# Altium footprint library TE_5-534998-5.PcbLib: 1 footprints
Each footprint in its own frame and in the unit in brackets; x right, y up, seen from the top. Pads: shape width x height; smd on the part's side, far side on the other; paste and mask are expansions set on the pad; w line width, h text height; cw(c..) or ccw(c..) is an arc to the next point about the centre after c.
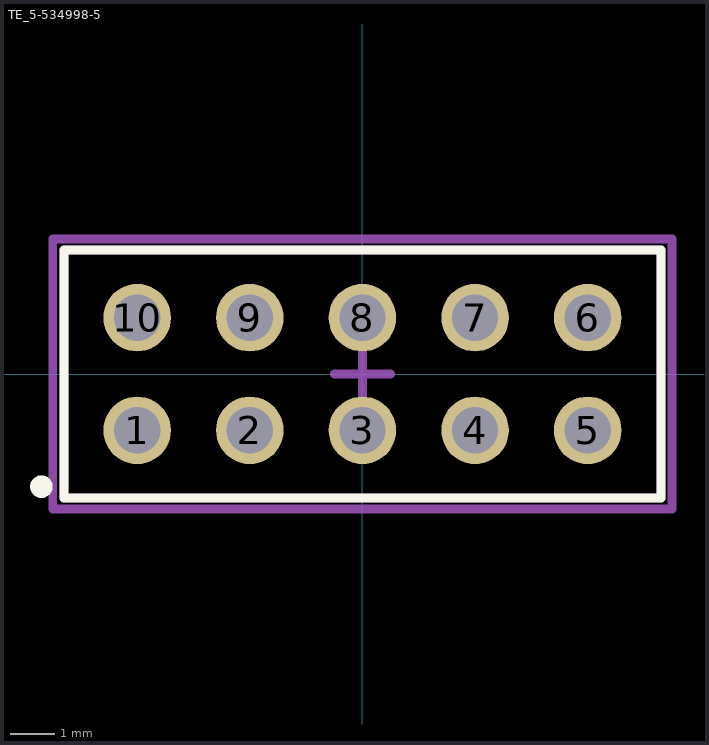
[diagram p0: the footprint, top view; thin cyan lines are the x and y axes]

## TE_5-534998-5 [mil]
pads (10):
  round 60 hole 41: 1(-200,-50) 2(-100,-50) 3(0,-50) 4(100,-50) 5(200,-50) 6(200,50) 7(100,50) 8(0,50) 9(-100,50) 10(-200,50)
Top Overlay:
  circle w10: c-285,-100 r5
  lines w7.87: -265,-110 -265,110 265,110 265,-110 -265,-110
Mechanical 15:
  lines w7.87: -25,0 25,0 ; 0,-25 0,25 ; -275,-120 275,-120 275,120 -275,120 -275,-120
Mechanical 17:
  lines w7.87: -265,-110 265,-110 265,110 -265,110 -265,-110
  text ".Designator" at -240,-80 h60
Mechanical 19:
  lines w7.87: -265,-110 265,-110 265,110 -265,110 -265,-110
  text ".Comment" at -240,-80 h60
3D body: height 265, standoff -125, extent -249.99,-103.99 250.01,94